# EAGLE library part SN74AHCT125 (library pimoroni-ics)
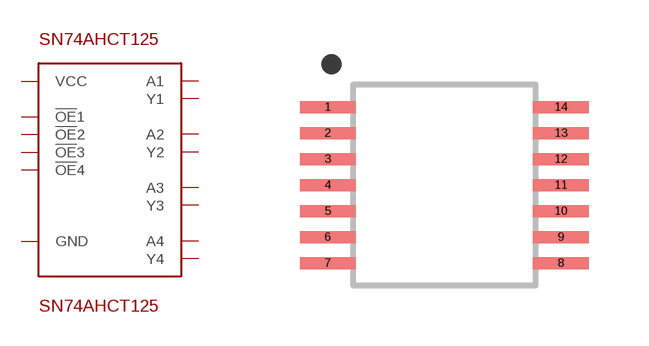
[diagram p34: symbol with the pads of TSSOP-14; footprint TSSOP-14]

Designator prefix U

## SN74AHCT125PWR  [TSSOP-14]
1  !OE!1
2  A1
3  Y1
4  !OE!2
5  A2
6  Y2
7  GND
8  Y3
9  A3
10  !OE!3
11  Y4
12  A4
13  !OE!4
14  VCC

## Footprint TSSOP-14 (pad centres in mm)
smd 1.4 x 0.3: 1 -2.918,1.95; 2 -2.918,1.3; 3 -2.918,0.65; 4 -2.918,0; 5 -2.918,-0.65; 6 -2.918,-1.3; 7 -2.918,-1.95; 8 2.918,-1.95; 9 2.918,-1.3; 10 2.918,-0.65; 11 2.918,0; 12 2.918,0.65; 13 2.918,1.3; 14 2.918,1.95